# EAGLE library part ONET4201LD (library CharlieCreations)
Laser Driver, 3.3V Supply, Bias Current: 1 to 100mA, Modulation Current: 5 to 85mA, CML Data Input
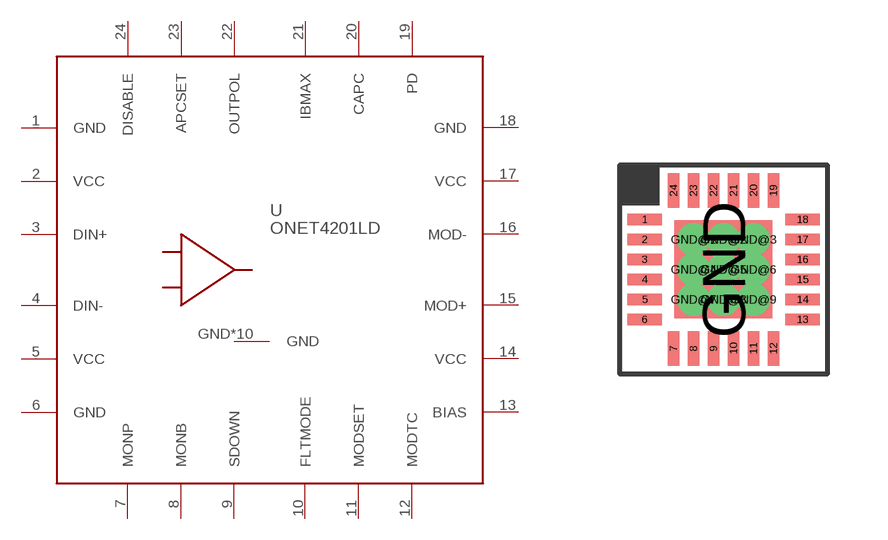
[diagram p1: symbol with the pads of 24-PIN-QFN; footprint 24-PIN-QFN]

Designator prefix U

## ONET4201LD1  [24-PIN-QFN]
1  GND  pwr
2  VCC  pwr
3  DIN+  in
4  DIN-  in
5  VCC  pwr
6  GND  pwr
7  MONP
8  MONB
9  SDOWN
10  FLTMODE
11  MODSET
12  MODTC
13  BIAS  out
14  VCC  pwr
15  MOD+  out
16  MOD-  out
17  VCC  pwr
18  GND  pwr
19  PD
20  CAPC
21  IBMAX
22  OUTPOL
23  APCSET
24  DISABLE  in
GND  GND
GND@1  GND
GND@2  GND
GND@3  GND
GND@4  GND
GND@5  GND
GND@6  GND
GND@7  GND
GND@8  GND
GND@9  GND

## Footprint 24-PIN-QFN (pad centres in mm)
24-PIN-QFN Recommended Board Layout for TI part ONET4201LD. 9 vias go through center pad to backside of board to help regulate thermals.
smd 0.85 x 0.28: 1 -1.975,1.25; 2 -1.975,0.75; 3 -1.975,0.25; 4 -1.975,-0.25; 5 -1.975,-0.75; 6 -1.975,-1.25; 13 1.975,-1.25; 14 1.975,-0.75; 15 1.975,-0.25; 16 1.975,0.25; 17 1.975,0.75; 18 1.975,1.25
smd 0.28 x 0.85: 7 -1.25,-1.975; 8 -0.75,-1.975; 9 -0.25,-1.975; 10 0.25,-1.975; 11 0.75,-1.975; 12 1.25,-1.975; 19 1.25,1.975; 20 0.75,1.975; 21 0.25,1.975; 22 -0.25,1.975; 23 -0.75,1.975; 24 -1.25,1.975
smd 2.45 x 2.45: GND 0,0
drill 0.3 pad 0.406: GND@1 -0.75,0.75; GND@2 0,0.75; GND@3 0.75,0.75; GND@4 -0.75,0; GND@5 0,0; GND@6 0.75,0; GND@7 -0.75,-0.75; GND@8 0,-0.75; GND@9 0.75,-0.75